# Altium footprint library RES_ERJ3EKF1003V.PcbLib: 1 footprints
Each footprint in its own frame and in the unit in brackets; x right, y up, seen from the top. Pads: shape width x height; smd on the part's side, far side on the other; paste and mask are expansions set on the pad; w line width, h text height; cw(c..) or ccw(c..) is an arc to the next point about the centre after c.
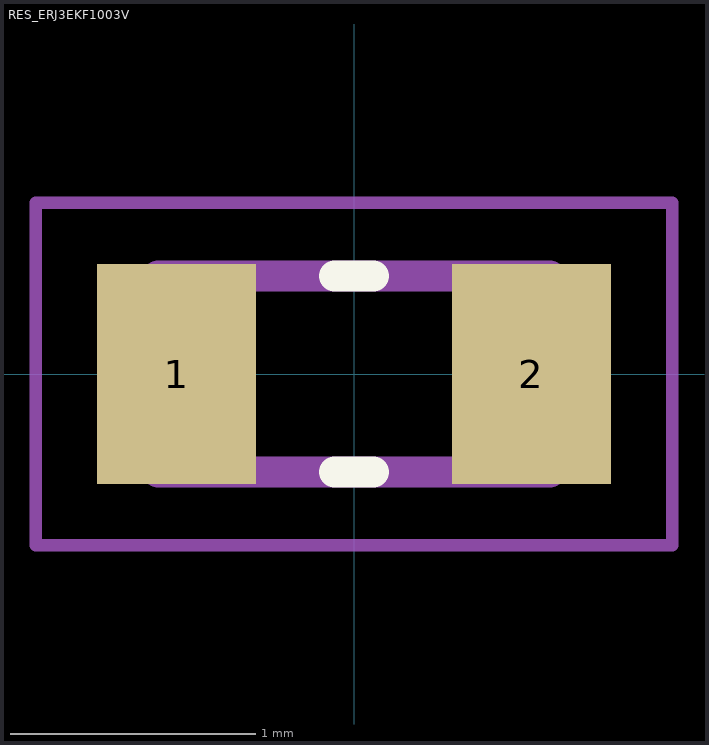
[diagram p0: the footprint, top view; thin cyan lines are the x and y axes]

## RES_ERJ3EKF1003V [mm]
height 0.45
pads (2):
  rect 0.65x0.9 smd: 1(-0.725,0) 2(0.725,0)
Top Overlay:
  lines w0.127: -0.08,-0.4 0.08,-0.4 ; -0.08,0.4 0.08,0.4
Mechanical 13:
  lines w0.127: -0.8,-0.4 -0.8,0.4 0.8,0.4 0.8,-0.4 -0.8,-0.4
Mechanical 15:
  lines w0.05: -1.3,-0.7 -1.3,0.7 1.3,0.7 1.3,-0.7 -1.3,-0.7
3D body "step_temp.STEP": height 0.45, standoff 0, extent -0.8,-0.4 0.8,0.4